# EAGLE library part PROG-1X8- (library con-headers-jp)
Programming Header 1x8pos Phase IV Engineering 8 position programming header.
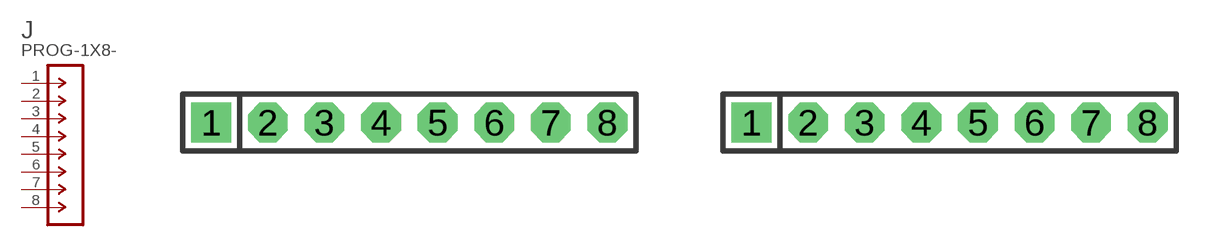
[diagram p78: symbol with the pads of SIP-100-08-40; footprints SIP-100-08-40, SIP-100-08-32]

Designator prefix J

## PROG-1X8-SIP-100-40  [SIP-100-08-40]
1  1  pas
2  2  pas
3  3  pas
4  4  pas
5  5  pas
6  6  pas
7  7  pas
8  8  pas

## PROG-1X8-SIP-100-32  [SIP-100-08-32]
Pads as for SIP-100-08-40

## PROG-1X8-SIP-100-32Y  [SIP-100-08-32Y]
Pads as for SIP-100-08-40

## PROG-1X8-SIP-100-40Y  [SIP-100-08-40Y]
Pads as for SIP-100-08-40

## PROG-1X8-SIP-2MM-28  [SIP-2MM-8-28]
Pads as for SIP-100-08-40

## PROG-1X8-050-26 (PARTNO: 29-100880-00)  [SIP-.050-1X08]
Pads as for SIP-100-08-40

## Footprint SIP-100-08-40 (pad centres in mm)
SIP Header - 0.1", 40 mil drill
drill 1.016 pad 1.778 square: 1 -8.89,0
drill 1.016 pad 1.778 octagon: 2 -6.35,0; 3 -3.81,0; 4 -1.27,0; 5 1.27,0; 6 3.81,0; 7 6.35,0; 8 8.89,0

## Footprint SIP-100-08-32 (pad centres in mm)
SIP Header - 0.1", 32 mil drill
drill 0.813 pad 1.778 square: 1 -8.89,0
drill 0.813 pad 1.778 octagon: 2 -6.35,0; 3 -3.81,0; 4 -1.27,0; 5 1.27,0; 6 3.81,0; 7 6.35,0; 8 8.89,0

## Footprint SIP-100-08-32Y (pad centres in mm)
SIP Header - 0.1", 32 mil drill
drill 0.813 long: 1 -8.89,0; 2 -6.35,0; 3 -3.81,0; 4 -1.27,0; 5 1.27,0; 6 3.81,0; 7 6.35,0; 8 8.89,0

## Footprint SIP-100-08-40Y (pad centres in mm)
SIP Header - 0.1", 40 mil drill
drill 1.016 long: 1 -8.89,0; 2 -6.35,0; 3 -3.81,0; 4 -1.27,0; 5 1.27,0; 6 3.81,0; 7 6.35,0; 8 8.89,0

## Footprint SIP-2MM-8-28 (pad centres in mm)
SIP Header - 2mm, 28 mil drill
drill 0.711 pad 1.422 square: 1 -6.968,0
drill 0.711 pad 1.422: 2 -4.968,0; 3 -2.968,0; 4 -0.968,0; 5 1.032,0; 6 3.032,0; 7 5.032,0; 8 7.032,0

## Footprint SIP-.050-1X08 (pad centres in mm)
SIP Header - CONN HEADER .050" 8POS PCB GOLD 26 mil drill, 40mil diam Offset centers for friction lock Sullins .050" Male Headers <http://www.sullinscorp.com/catalogs/82_PAGE90-91_.050_MALE_HDR_ST_RA_SMT.pdf>
drill 0.66 pad 1.016 square: 1 0,0.051
drill 0.66 pad 1.016: 2 1.27,-0.051; 3 2.54,0.051; 4 3.81,-0.051; 5 5.08,0.051; 6 6.35,-0.051; 7 7.62,0.051; 8 8.89,-0.051